# Altium schematic symbol library LMK1C1104PWR.SchLib: 1 symbol
Pins are listed as number, name and electrical type; pins without a type are passive.

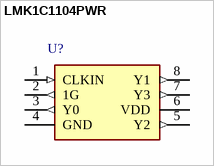
[diagram p0: symbol LMK1C1104PWR]

## LMK1C1104PWR
designator U?
pins: 1 CLKIN (in), 2 1G (out), 3 Y0 (out), 4 GND (power), 5 Y2 (out), 6 VDD (power), 7 Y3 (out), 8 Y1 (out)